# Altium footprint library Headnode.PcbLib: 27 footprints (part 1 of 2)
Each footprint in its own frame and in the unit in brackets; x right, y up, seen from the top. Pads: shape width x height; smd on the part's side, far side on the other; paste and mask are expansions set on the pad; w line width, h text height; cw(c..) or ccw(c..) is an arc to the next point about the centre after c.
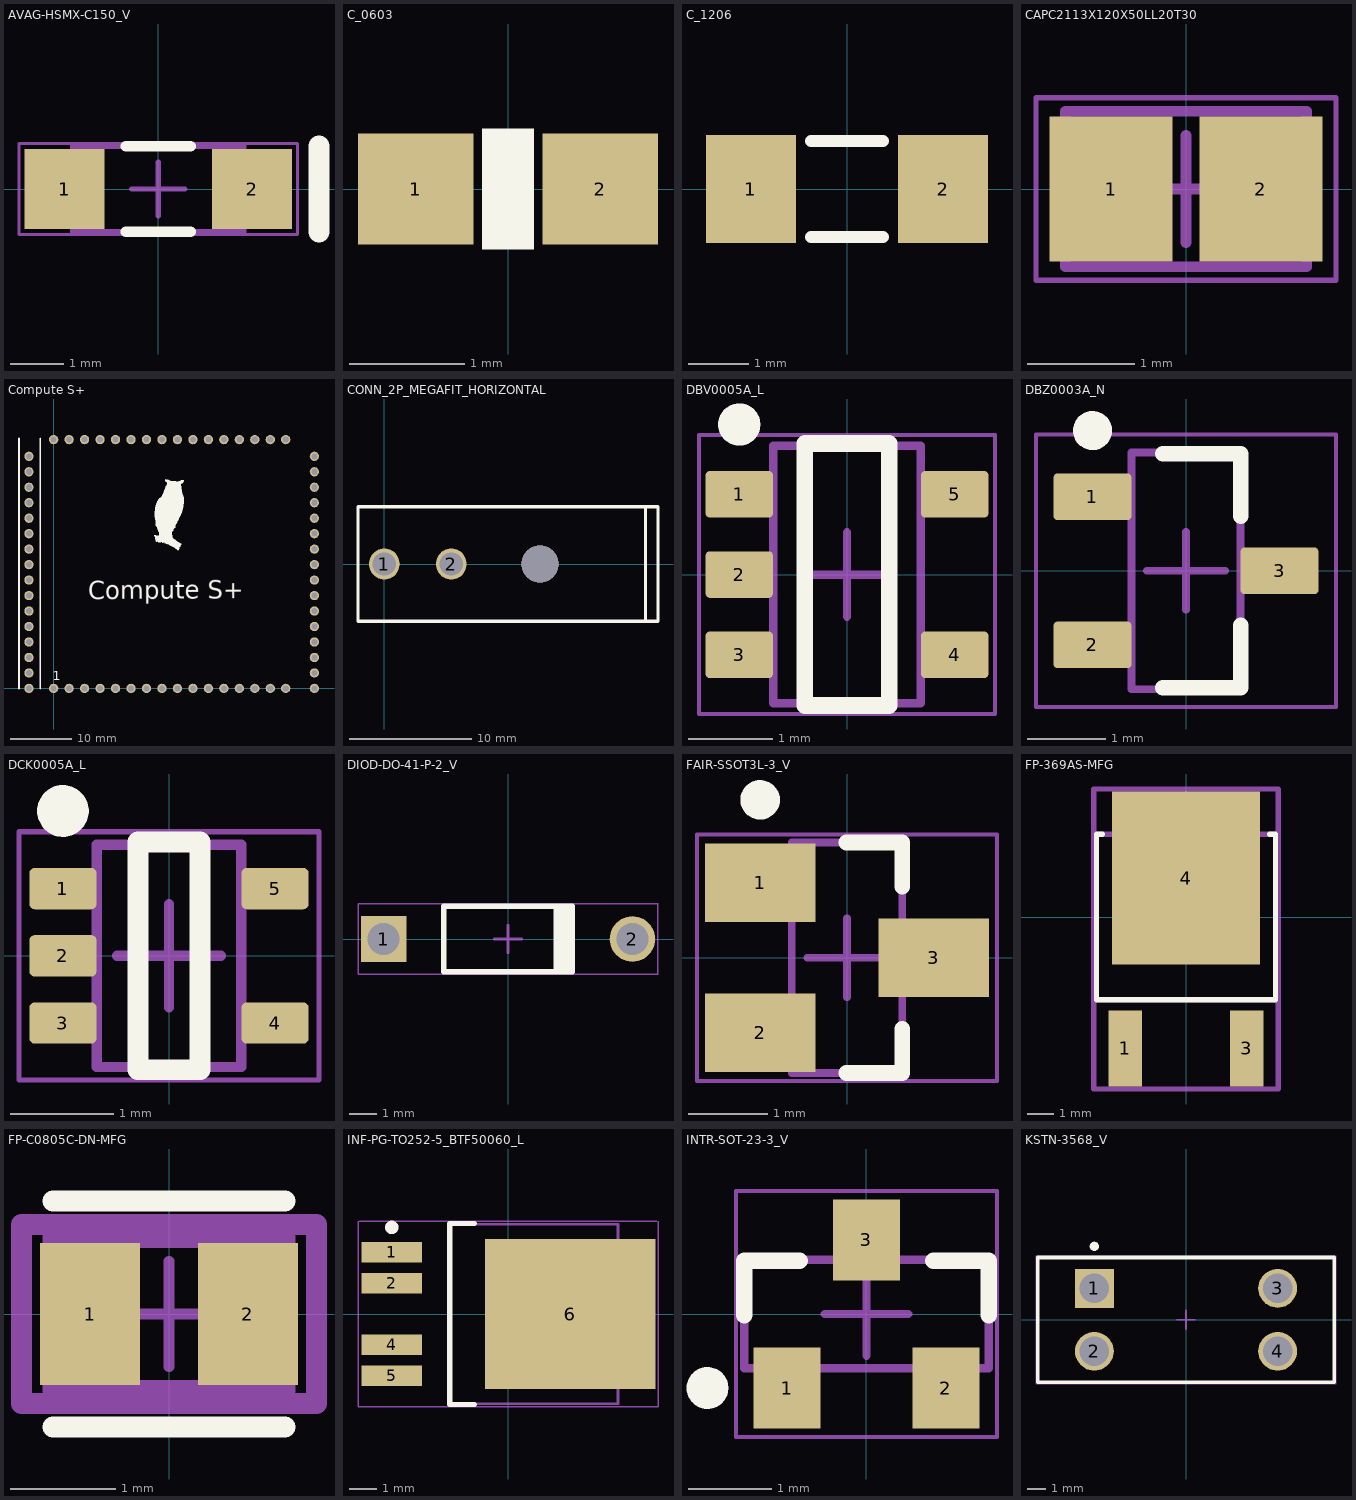
[diagram p0: the footprints below, top view; thin cyan lines are the x and y axes]

## AVAG-HSMX-C150_V [mm]
pads (2):
  rect 1.5x1.5 smd: 1(-1.75,0) 2(1.75,0)
Top Overlay:
  lines w0.2: -0.603,-0.8 0.603,-0.8 ; -0.603,0.8 0.603,0.8
  lines w0.4: 3,-0.8 3,0.8
Mechanical 13:
  lines w0.1: -1.6,-0.8 1.6,-0.8 1.6,0.8 -1.6,0.8 -1.6,-0.8
Mechanical 15:
  lines w0.05: -2.6,-0.85 2.6,-0.85 2.6,0.85 -2.6,0.85 -2.6,-0.85
  lines w0.1: -0.5,0 0.5,0 ; 0,-0.5 0,0.5
3D body: height 1.1, standoff 0.5, extent -0.999,-0.799 0.999,0.799
3D body: height 0.5, standoff 0, extent -1.599,-0.799 1.599,0.799

## C_0603 [mm]
pads (2):
  rect 1x0.96 smd mask+0.064: 1(-0.8,0) 2(0.8,0)
Top Overlay:
  rectangle: -0.225,-0.525 0.225,0.525
3D body "0603 capacitor.stp": height 0.8, standoff -0.01, extent -0.8,-0.405 0.8,0.405

## C_1206 [mm]
pads (2):
  rect 1.5x1.8 smd mask+0.064: 1(-1.6,0) 2(1.6,0)
Top Overlay:
  lines w0.2: -0.6,-0.8 0.6,-0.8 ; -0.6,0.8 0.6,0.8
3D body "1206 capacitor.stp": height 1.59, standoff -0.01, extent -1.6,-0.8 1.6,0.8

## CAPC2113X120X50LL20T30 [mm]
pads (2):
  rect 1.15x1.35 smd: 1(-0.7,0) 2(0.7,0)
Mechanical 13:
  lines w0.1: -1.125,-0.725 -1.125,0.725 1.125,0.725 1.125,-0.725 -1.125,-0.725
Mechanical 15:
  lines w0.05: -1.4,-0.85 -1.4,0.85 1.4,0.85 1.4,-0.85 -1.4,-0.85
  lines w0.1: -0.5,0 0.5,0 ; 0,-0.5 0,0.5
3D body: height 1.2, standoff 0, extent -0.625,-0.725 0.625,0.725
3D body: height 1.2, standoff 0, extent -1.125,-0.725 -0.625,0.725
3D body: height 1.2, standoff 0, extent 0.625,-0.725 1.125,0.725

## Compute S+ [mil]
pads (64):
  round 60 hole 39.37: CANH(1000,1607.95) CANL(1100,1607.95) GND1(600,0) GND2(-160,900) GND3(1685,600) GND4(1685,1400) GND5(100,1607.95) GND6(900,1607.95) NMI(0,0) PA00(-160,1500) PA01(-160,1400) PA02(-160,1300) PA03(-160,1200) PA04(-160,300) PA05(-160,200) PA06(-160,100) PA07(-160,0) PA09(100,0) PA10(200,0) PA11(300,0) PA12(1200,0) PA13(1300,0) PA14(1400,0) PA15(1500,0) PA16(1685,0) PA17(1685,100) PA18(1685,200) PA19(1685,300) PA20(1685,800) PA21(1685,900) PA22(1685,1000) PA23(1685,1100) PA24(1685,1200) PA25(1685,1300) PA27(1500,1607.95) PA28(1400,1607.95) PA30(1300,1607.95) PA31(1200,1607.95) PB00(500,1607.95) PB01(400,1607.95) PB02(300,1607.95) PB03(200,1607.95) PB04(-160,1100) PB05(-160,1000) PB06(-160,700) PB07(-160,600) PB08(-160,500) PB09(-160,400) PB10(400,0) PB11(500,0) PB12(800,0) PB13(900,0) PB14(1000,0) PB15(1100,0) PB16(1685,400) PB17(1685,500) PB30(700,1607.95) PB31(600,1607.95) VDD1(700,0) VDD2(-160,800) VDD3(1685,700) VDD4(1685,1500) VDD5(0,1607.95) VDD6(800,1607.95)
Top Overlay:
  drawing of 3 lines, arcs and shapes, not listed
  text "Compute S+" at 222.44,538.19 h196.85
  text "1" at -7.09,51.57 h60

## CONN_2P_MEGAFIT_HORIZONTAL [mm]
pads (2):
  round 2.54 hole 1.905: 1(0,0) 2(5.5,0)
via 12.8,0 diameter 3.05 hole 3.05
Top Overlay:
  lines w0.254: -2.159,-0.029 -2.159,-4.699 6.541,-4.699 ; -2.159,0 -2.159,4.67 ; -2.159,4.699 6.541,4.699 ; 6.477,-4.699 15.177,-4.699 ; 6.477,4.699 15.177,4.699 ; 12.7,-4.699 21.4,-4.699 ; 12.7,4.699 21.4,4.699 ; 21.463,-4.699 22.479,-4.699 22.479,4.699 21.463,4.699 ; 21.463,-4.67 21.463,0 21.463,4.67
3D body "768250002.stp": height 14.06, standoff -4.07, extent -0.635,-4.158 21.327,4.191

## DBV0005A_L [mm]
pads (5):
  rrect18% 0.8x0.55 smd: 1(-1.275,0.95) 2(-1.275,0) 3(-1.275,-0.95) 4(1.275,-0.95) 5(1.275,0.95)
Top Overlay:
  circle w0.25: c-1.275,1.775 r0.125
  lines w0.2: -0.5,-1.55 -0.5,1.55 0.5,1.55 0.5,-1.55 -0.5,-1.55
Mechanical 1:
  text ".Designator" at -0.635,-0.254 h0.4
Mechanical 13:
  lines w0.1: -0.875,-1.525 0.875,-1.525 0.875,1.525 -0.875,1.525 -0.875,-1.525
Mechanical 15:
  lines w0.05: -1.75,-1.65 1.75,-1.65 1.75,1.65 -1.75,1.65 -1.75,-1.65
  lines w0.1: -0.5,0 0.5,0 ; 0,-0.5 0,0.5
3D body "DBV0005AaksMF05A.stp": height 1.08, standoff -0.01, extent -1.422,-1.461 1.422,1.46

## DBZ0003A_N [mm]
pads (3):
  rrect17% 1x0.6 smd: 1(-1.2,0.95) 2(-1.2,-0.95) 3(1.2,0)
Top Overlay:
  circle w0.25: c-1.2,1.8 r0.125
  lines w0.2: -0.3,-1.5 0.7,-1.5 0.7,-0.7 ; -0.3,1.5 0.7,1.5 0.7,0.7
Mechanical 1:
  text ".Designator" at -0.508,-0.127 h0.35
Mechanical 13:
  lines w0.1: -0.7,-1.52 -0.7,1.52 0.7,1.52 0.7,-1.52 -0.7,-1.52
Mechanical 15:
  lines w0.05: -1.925,-1.75 -1.925,1.75 1.925,1.75 1.925,-1.75 -1.925,-1.75
  lines w0.1: -0.5,0 0.5,0 ; 0,-0.5 0,0.5
3D body "DBZ0003AakaMF03A.stp": height 0.96, standoff -0.02, extent -1.257,-1.461 1.257,1.46

## DCK0005A_L [mm]
pads (5):
  rrect25% 0.65x0.4 smd: 1(-1.025,0.65) 2(-1.025,0) 3(-1.025,-0.65) 4(1.025,-0.65) 5(1.025,0.65)
Top Overlay:
  circle w0.25: c-1.025,1.4 r0.125
  lines w0.2: -0.3,-1.1 0.3,-1.1 0.3,1.1 -0.3,1.1 -0.3,-1.1
Mechanical 1:
  text ".Designator" at -0.635,-0.127 h0.3
Mechanical 13:
  lines w0.1: -0.7,-1.075 -0.7,1.075 0.7,1.075 0.7,-1.075 -0.7,-1.075
Mechanical 15:
  lines w0.05: -1.45,-1.2 -1.45,1.2 1.45,1.2 1.45,-1.2 -1.45,-1.2
  lines w0.1: -0.5,0 0.5,0 ; 0,-0.5 0,0.5
3D body "DCK0005AakaMAA05A.stp": height 0.94, standoff -0.01, extent -1.14,-1 1.14,1

## DIOD-DO-41-P-2_V [mm]
pads (2):
  rect 1.65x1.65 hole 1.15: 1(-4.5,0)
  round 1.65 hole 1.15: 2(4.5,0)
Top Overlay:
  rectangle: 1.651,-1.18 2.317,1.18
  lines w0.2: -2.318,-1.18 -2.318,1.18 2.318,1.18 2.318,-1.18 -2.318,-1.18
Mechanical 13:
  lines w0.1: -2.318,-1.18 2.318,-1.18 2.318,1.18 -2.318,1.18 -2.318,-1.18
Mechanical 15:
  lines w0.05: -5.425,-1.28 -5.425,1.28 5.425,1.28 5.425,-1.28 -5.425,-1.28
  lines w0.1: -0.5,0 0.5,0 ; 0,-0.5 0,0.5
3D body: height 2.35, standoff 0, extent -2.317,-1.18 2.317,1.175
3D body: height 1.18, standoff -2, extent 4.068,-0.431 4.929,0.431
3D body: height 1.61, standoff 0.75, extent 4.069,-0.43 4.929,0.43
3D body: height 1.61, standoff 0.75, extent 2.317,-0.431 4.499,0.431
3D body: height 1.61, standoff 0.75, extent -4.499,-0.431 -2.317,0.431
3D body: height 1.61, standoff 0.75, extent -4.929,-0.43 -4.069,0.43
3D body: height 1.18, standoff -2, extent -4.929,-0.431 -4.068,0.431

## FAIR-SSOT3L-3_V [mm]
pads (3):
  rect 1.4x1 smd: 1(-1.1,0.95) 2(-1.1,-0.95) 3(1.1,0)
Top Overlay:
  circle w0.25: c-1.1,2 r0.125
  lines w0.2: -0.006,-1.46 0.7,-1.46 0.7,-0.9 ; -0.006,1.46 0.7,1.46 0.7,0.9
Mechanical 13:
  lines w0.1: -0.7,-1.46 0.7,-1.46 0.7,1.46 -0.7,1.46 -0.7,-1.46
Mechanical 15:
  lines w0.05: -1.9,-1.56 1.9,-1.56 1.9,1.56 -1.9,1.56 -1.9,-1.56
  lines w0.1: -0.5,0 0.5,0 ; 0,-0.5 0,0.5
3D body "FAIR-SSOT3L-3_V.stp": height 1.12, standoff 0, extent -1.26,-1.46 1.26,1.46

## FP-369AS-MFG [mm]
pads (3):
  rect 1.25x2.85 smd paste+0 mask+0: 1(-2.28,-4.938) 3(2.28,-4.938)
  rect 5.55x6.5 smd paste+0 mask+0: 4(0,1.462)
Top Overlay:
  lines w0.2: -3.15,3.11 -3.365,3.11 -3.365,-3.11 3.365,-3.11 3.365,3.11 3.15,3.11
Top 3D Body:
  lines w0.2: -3.365,-3.11 3.365,-3.11 3.365,3.11 -3.365,3.11 -3.365,-3.11
Top Courtyard:
  lines w0.2: -3.465,-6.462 3.465,-6.462 3.465,4.812 -3.465,4.812 -3.465,-6.462
Top Assembly:
  lines w0.2: -3.465,-6.462 3.465,-6.462 3.465,4.812 -3.465,4.812 -3.465,-6.462
  text ".Designator" at 1.611,0.576 h1
Top Component Center:
  lines w0.1: -0.5,0 0.5,0 ; 0,-0.5 0,0.5
3D body "Diode_ON_Semiconductor_FDD4141_eec.STEP": height 2.53, standoff 0, extent -3.27,-5.77 3.27,4.125

## FP-C0805C-DN-MFG [mm]
pads (2):
  rect 0.95x1.35 smd paste+0 mask+0: 1(-0.75,0) 2(0.75,0)
Top Overlay:
  lines w0.2: -1.1,-1.075 1.1,-1.075 ; -1.1,1.075 1.1,1.075
Top 3D Body:
  lines w0.2: -1.1,-0.725 1.1,-0.725 1.1,0.725 -1.1,0.725 -1.1,-0.725
Top Courtyard:
  lines w0.2: -1.4,-0.85 1.4,-0.85 1.4,0.85 -1.4,0.85 -1.4,-0.85
Top Assembly:
  lines w0.2: -1.4,-0.85 1.4,-0.85 1.4,0.85 -1.4,0.85 -1.4,-0.85
  text ".Designator" at 0,0.187 h1
Top Component Center:
  lines w0.1: -0.5,0 0.5,0 ; 0,-0.5 0,0.5
3D body "Cap_KEMET_C0805C472J3HAC_eec.STEP": height 0.25, standoff 0, extent -1.4,-0.85 1.4,0.85

## INF-PG-TO252-5_BTF50060_L [mm]
pads (5):
  rect 2.25x0.75 smd: 1(-4.3,2.28) 2(-4.3,1.14) 4(-4.3,-1.14) 5(-4.3,-2.28)
  rect 6.3x5.55 smd: 6(2.3,0)
Top Overlay:
  circle w0.25: c-4.3,3.205 r0.125
  lines w0.2: -1.25,-3.35 -2.15,-3.35 -2.15,3.35 -1.25,3.35
Mechanical 13:
  lines w0.1: -2.15,-3.325 4.07,-3.325 4.07,3.325 -2.15,3.325 -2.15,-3.325
Mechanical 15:
  lines w0.05: -5.55,3.425 -5.55,-3.425 5.55,-3.425 5.55,3.425 ; -5.5,3.425 5.5,3.425
  lines w0.1: -0.5,0 0.5,0 ; 0,-0.5 0,0.5
3D body: height 2.35, standoff 0, extent -2.15,-3.325 4.07,3.325

## INTR-SOT-23-3_V [mm]
pads (3):
  rect 0.802x0.972 smd: 1(-0.95,-0.885) 2(0.95,-0.885) 3(0,0.885)
Top Overlay:
  circle w0.25: c-1.901,-0.885 r0.125
  lines w0.2: -1.46,-0.014 -1.46,0.621 ; -1.46,0.635 -0.801,0.635 ; 0.801,0.635 1.46,0.635 ; 1.46,-0.014 1.46,0.621
Mechanical 13:
  lines w0.1: -1.46,-0.65 -1.46,0.65 1.46,0.65 1.46,-0.65 -1.46,-0.65
Mechanical 15:
  lines w0.05: -1.56,-1.471 -1.56,1.471 1.56,1.471 1.56,-1.471 -1.56,-1.471
  lines w0.1: -0.5,0 0.5,0 ; 0,-0.5 0,0.5
3D body: height 1.12, standoff 0.01, extent -1.46,-0.65 1.46,0.65

## KSTN-3568_V [mm]
pads (4):
  rect 2.1x2.1 hole 1.6: 1(-4.95,1.7)
  round 2.1 hole 1.6: 2(-4.95,-1.7) 3(4.95,1.7) 4(4.95,-1.7)
Top Overlay:
  circle w0.25: c-4.95,3.965 r0.125
  lines w0.2: -8,-3.365 8,-3.365 8,3.365 -8,3.365 -8,-3.365
Mechanical 13:
  lines w0.1: -8,-3.365 -8,3.365 8,3.365 8,-3.365 -8,-3.365
Mechanical 15:
  lines w0.05: -8.1,-3.465 -8.1,3.465 8.1,3.465 8.1,-3.465 -8.1,-3.465
  lines w0.1: -0.5,0 0.5,0 ; 0,-0.5 0,0.5
3D body "keystone-PN3568.step": height 7.44, standoff -2.72, extent -8,-3.366 8.002,3.366